# EAGLE library part LM20125/LM20125Q (library LM20125)
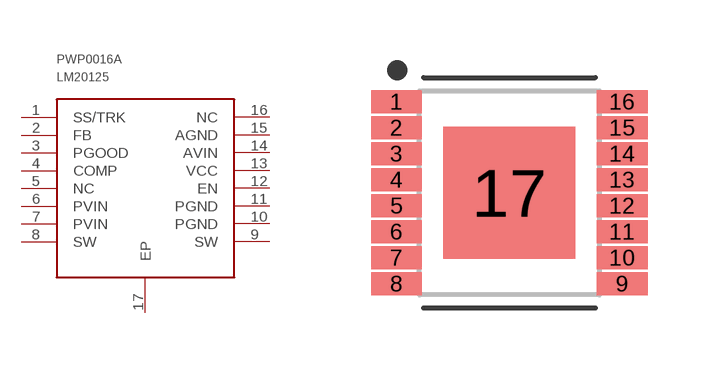
[diagram p0: symbol with the pads of SOP65P640X120-17T330L; footprint SOP65P640X120-17T330L]

Designator prefix -

## LM20125/LM20125Q  [SOP65P640X120-17T330L]
1  SS/TRK
2  FB
3  PGOOD
4  COMP
5  NC
6  PVIN
7  PVIN
8  SW
9  SW
10  PGND
11  PGND
12  EN
13  VCC
14  AVIN
15  AGND
16  NC
17  EP

## Footprint SOP65P640X120-17T330L (pad centres in mm)
16-SOP, 0.65 mm pitch, 6.40 mm span, 5.00 X 4.40 X 1.20 mm body, 3.30 X 3.30 mm thermal pad 16-pin SOP package with 0.65 mm pitch, 6.40 mm span with body size 5.00 X 4.40 X 1.20 mm and thermal pad size 3.30 X 3.30 mm
smd 1.272 x 0.582: 1 -2.822,2.275; 2 -2.822,1.625; 3 -2.822,0.975; 4 -2.822,0.325; 5 -2.822,-0.325; 6 -2.822,-0.975; 7 -2.822,-1.625; 8 -2.822,-2.275; 9 2.822,-2.275; 10 2.822,-1.625; 11 2.822,-0.975; 12 2.822,-0.325; 13 2.822,0.325; 14 2.822,0.975; 15 2.822,1.625; 16 2.822,2.275
smd 3.3 x 3.3: 17 0,0